# EAGLE library part HY_GNSS_QUECTEL_L86-M33 (library lieBtrau)
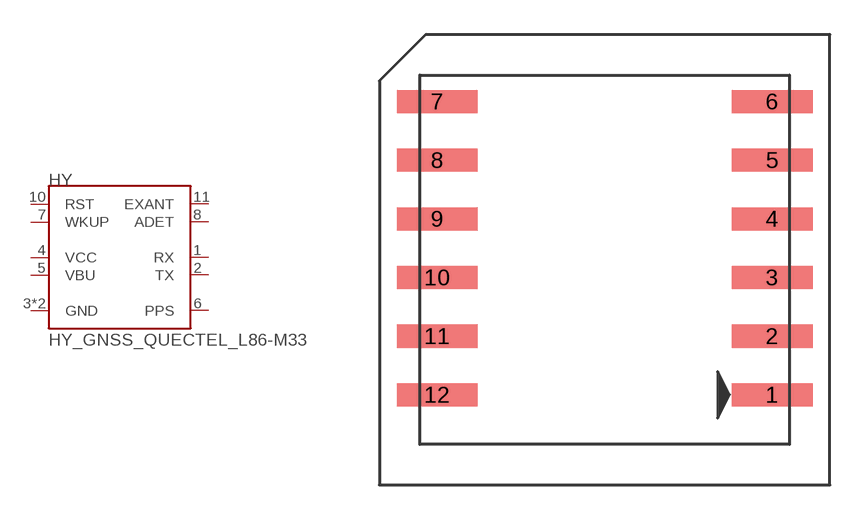
[diagram p7: symbol with the pads of HY_GNSS_L86-M33; footprint HY_GNSS_L86-M33]

Designator prefix HY

## HY_GNSS_QUECTEL_L86-M33 (COST: 14.08; ORDERCODE: RS: 908-4114; VALUE: L86-M33)  [HY_GNSS_L86-M33]
1  RX
2  TX
3  GND
4  VCC
5  VBU
6  PPS
7  WKUP
8  ADET
10  RST
11  EXANT
12  GND

## Footprint HY_GNSS_L86-M33 (pad centres in mm)
smd 3.5 x 1: 1 7.25,-6.7; 2 7.25,-4.16; 3 7.25,-1.62; 4 7.25,0.92; 5 7.25,3.46; 6 7.25,6; 7 -7.25,6; 8 -7.25,3.46; 9 -7.25,0.92; 10 -7.25,-1.62; 11 -7.25,-4.16; 12 -7.25,-6.7